# EAGLE library part TPS5430DDA (library TMS99)
TPS5430 DC to DC converter
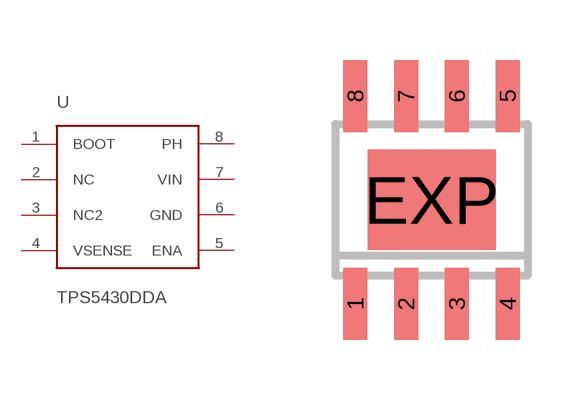
[diagram p3: symbol with the pads of HSOP8; footprint HSOP8]

Designator prefix U

## TPS5430DDA  [HSOP8]
1  BOOT
2  NC
3  NC2
4  VSENSE
5  ENA
6  GND
7  VIN
8  PH

## Footprint HSOP8 (pad centres in mm)
HSOP 08 (Exposed pad) Source: http://www.st.com/internet/com/TECHNICAL_RESOURCES/TECHNICAL_LITERATURE/DATASHEET/CD00002851.pdf
smd 0.6 x 1.8: 1 -1.905,-2.6; 2 -0.635,-2.6; 3 0.635,-2.6; 4 1.905,-2.6; 5 1.905,2.6; 6 0.635,2.6; 7 -0.635,2.6; 8 -1.905,2.6
smd 3.2 x 2.51: EXP 0,0